# Altium integrated library Linear Technology Power Management Switching Regulator LT1074-LT8705.IntLib: 2252 symbols (part 82 of 148)
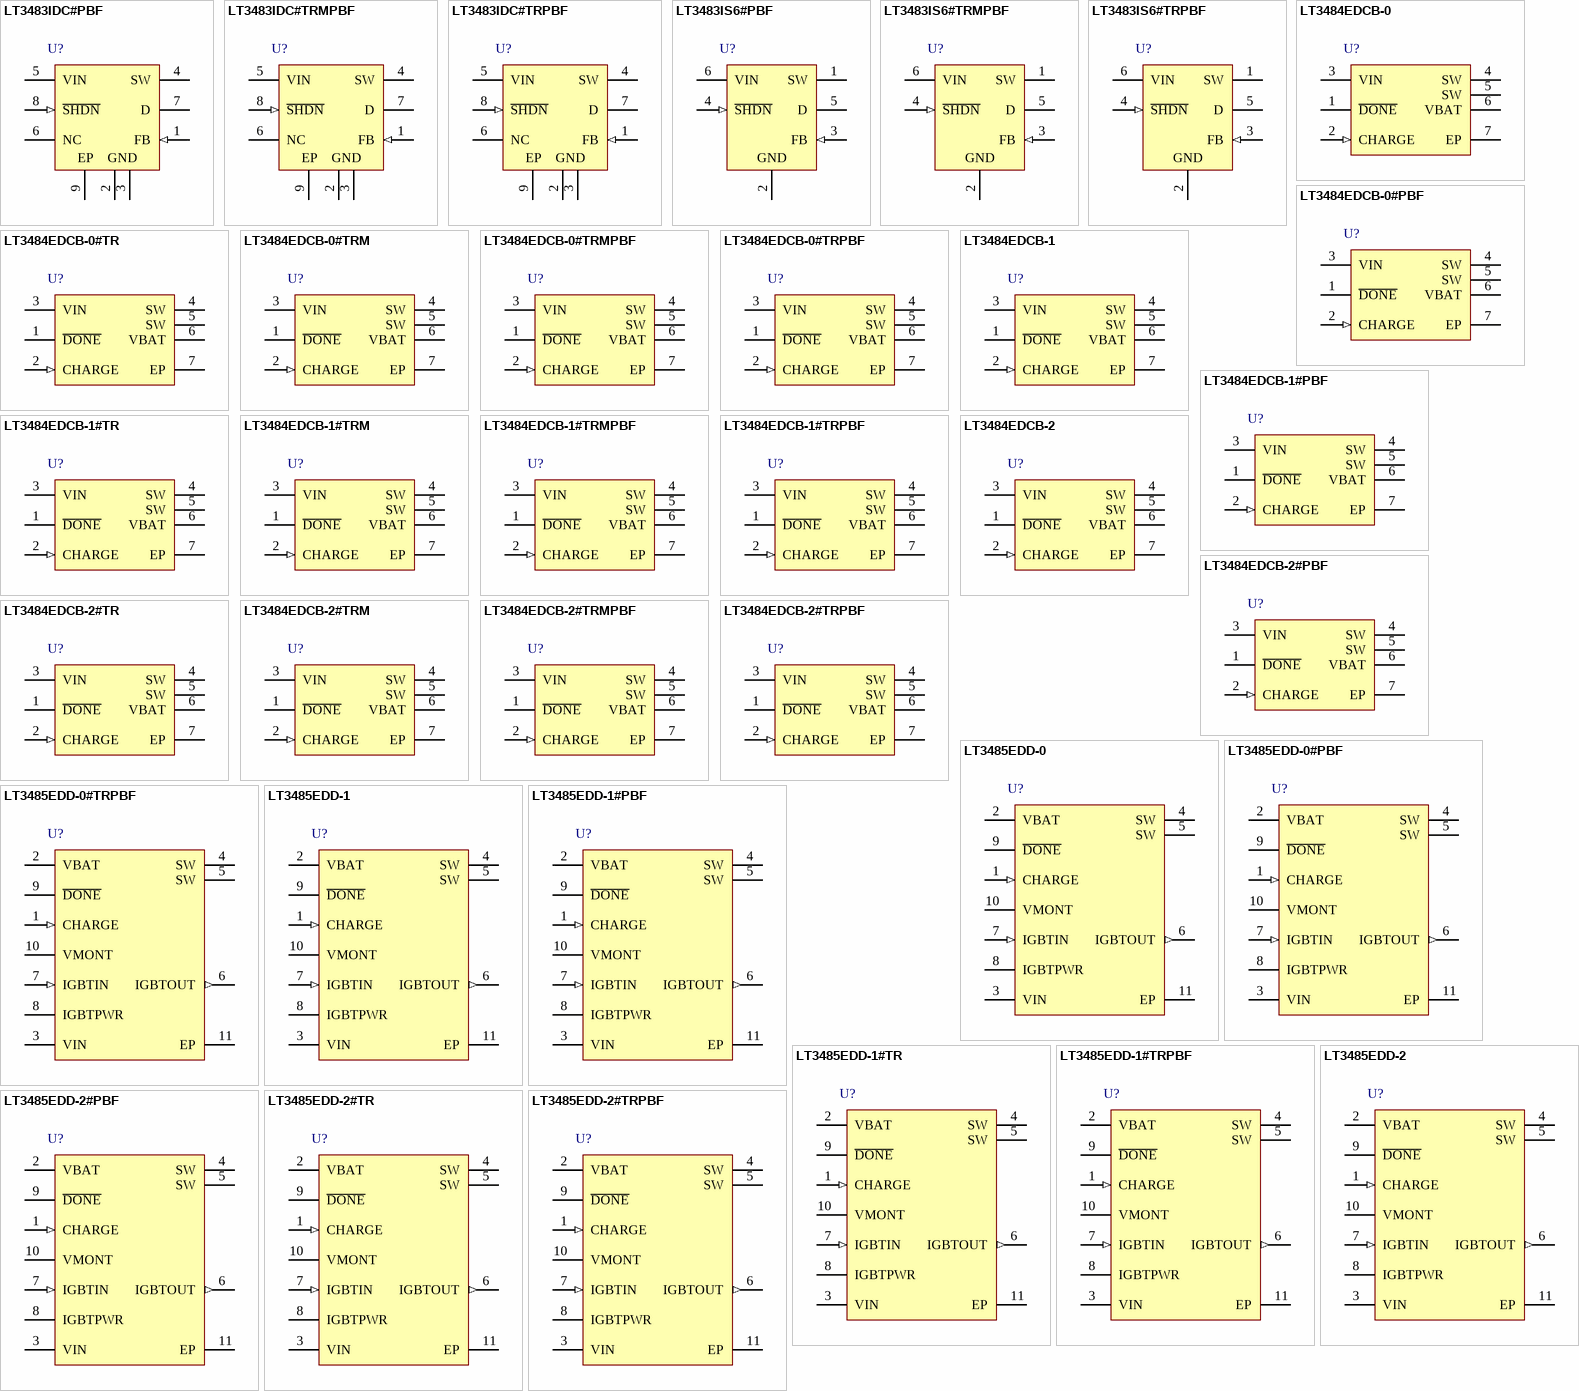
[diagram p152: symbols LT3483IDC#PBF to LT3485EDD-2#TRPBF]

## LT3484EDCB-1
designator U?
Photoflash Capacitor Charger, 6-pin SON (DCB-6), -40 to 85 degC; Manufacturer: Linear Technology; PartNumber: LT3484EDCB-1; Number of Outputs: 1; PackageVersion: Rev. A, 03/2011; PackageReference: DCB-6; PackageDescription: 6-Pin Plastic DFN, Body 2 x 3 mm, Pitch 0.5 mm; RoHS: FALSE; Mounting Technology: Surface Mount; Code_JEDEC: MO-229; ComponentLink1Description: Manufacturer URL; ComponentLink1URL: http://www.linear.com/; ComponentLink2Description: Datasheet; ComponentLink2URL: http://cds.linear.com/docs/en/datasheet/3484012f.pdf; ComponentLink3Description: Package Specification; ComponentLink3URL: http://www.linear.com/docs/en/packaging/(DCB6)%20DFN%2005-08-1715%20Rev%20A.pdf
footprint LT-DCB-6_V (SON, 6-Leads, Body 3x2mm, Pitch 0.5mm, Thermal Pad 1.65x1.35mm)
pins: 1 ~{DONE} (oc) "Open NPN Collector Indication Pin. When target output voltage is reached, NPN turns on, pulling Pin 1 low. This pin needs a pull-up resistor or current source.", 2 CHARGE (in) "Charge Pin. A low (<0.3V) to high (>1V) transition on this pin puts the part into power delivery mode. Once the target voltage is reached, the part will stop charging the output. Toggle this pin to start charging again. (See Datasheet)", 3 VIN (power) "Input Supply Pin. Must be locally bypassed with a good quality ceramic capacitor. Input supply must be 2.5V or higher.", 4 SW (power) "Switch Pins. These are the collector of the internal NPN Power switch. Tie these pins together on the PC Board. Minimize the metal trace area connected to these pins to minimize EMI. Tie one side of the primary of the (See Datasheet)", 5 SW (power) "Switch Pins. These are the collector of the internal NPN Power switch. Tie these pins together on the PC Board. Minimize the metal trace area connected to these pins to minimize EMI. Tie one side of the primary of the (See Datasheet)", 6 VBAT (power) "Battery Supply Pin. Must be locally bypassed with a good quality ceramic capacitor. Battery supply must be 1.7V or higher. The other terminal of the transformer primary must be connected to VBAT.", 7 EP (power) "Ground. Tie directly to local ground plane."

## LT3484EDCB-1#PBF
designator U?
Photoflash Capacitor Charger, 6-pin SON (DCB-6), -40 to 85 degC, Pb-Free; Manufacturer: Linear Technology; PartNumber: LT3484EDCB-1#PBF; Number of Outputs: 1; PackageVersion: Rev. A, 03/2011; PackageReference: DCB-6; PackageDescription: 6-Pin Plastic DFN, Body 2 x 3 mm, Pitch 0.5 mm; RoHS: TRUE; Mounting Technology: Surface Mount; Code_JEDEC: MO-229; ComponentLink1Description: Manufacturer URL; ComponentLink1URL: http://www.linear.com/; ComponentLink2Description: Datasheet; ComponentLink2URL: http://cds.linear.com/docs/en/datasheet/3484012f.pdf; ComponentLink3Description: Package Specification; ComponentLink3URL: http://www.linear.com/docs/en/packaging/(DCB6)%20DFN%2005-08-1715%20Rev%20A.pdf
footprint LT-DCB-6_V (SON, 6-Leads, Body 3x2mm, Pitch 0.5mm, Thermal Pad 1.65x1.35mm)
pins: 1 ~{DONE} (oc) "Open NPN Collector Indication Pin. When target output voltage is reached, NPN turns on, pulling Pin 1 low. This pin needs a pull-up resistor or current source.", 2 CHARGE (in) "Charge Pin. A low (<0.3V) to high (>1V) transition on this pin puts the part into power delivery mode. Once the target voltage is reached, the part will stop charging the output. Toggle this pin to start charging again. (See Datasheet)", 3 VIN (power) "Input Supply Pin. Must be locally bypassed with a good quality ceramic capacitor. Input supply must be 2.5V or higher.", 4 SW (power) "Switch Pins. These are the collector of the internal NPN Power switch. Tie these pins together on the PC Board. Minimize the metal trace area connected to these pins to minimize EMI. Tie one side of the primary of the (See Datasheet)", 5 SW (power) "Switch Pins. These are the collector of the internal NPN Power switch. Tie these pins together on the PC Board. Minimize the metal trace area connected to these pins to minimize EMI. Tie one side of the primary of the (See Datasheet)", 6 VBAT (power) "Battery Supply Pin. Must be locally bypassed with a good quality ceramic capacitor. Battery supply must be 1.7V or higher. The other terminal of the transformer primary must be connected to VBAT.", 7 EP (power) "Ground. Tie directly to local ground plane."

## LT3484EDCB-1#TR
designator U?
Photoflash Capacitor Charger, 6-pin SON (DCB-6), -40 to 85 degC, Tape and Reel; Manufacturer: Linear Technology; PartNumber: LT3484EDCB-1#TR; Number of Outputs: 1; PackageVersion: Rev. A, 03/2011; PackageReference: DCB-6; PackageDescription: 6-Pin Plastic DFN, Body 2 x 3 mm, Pitch 0.5 mm; Supplier 1: Digi-Key; Supplier Part Number 1: LT3484EDCB-1#TR-ND; Packing: Tape and Reel; RoHS: FALSE; Mounting Technology: Surface Mount; Code_JEDEC: MO-229; ComponentLink1Description: Manufacturer URL; ComponentLink1URL: http://www.linear.com/; ComponentLink2Description: Datasheet; ComponentLink2URL: http://cds.linear.com/docs/en/datasheet/3484012f.pdf; ComponentLink3Description: Package Specification; ComponentLink3URL: http://www.linear.com/docs/en/packaging/(DCB6)%20DFN%2005-08-1715%20Rev%20A.pdf
footprint LT-DCB-6_V (SON, 6-Leads, Body 3x2mm, Pitch 0.5mm, Thermal Pad 1.65x1.35mm)
pins: 1 ~{DONE} (oc) "Open NPN Collector Indication Pin. When target output voltage is reached, NPN turns on, pulling Pin 1 low. This pin needs a pull-up resistor or current source.", 2 CHARGE (in) "Charge Pin. A low (<0.3V) to high (>1V) transition on this pin puts the part into power delivery mode. Once the target voltage is reached, the part will stop charging the output. Toggle this pin to start charging again. (See Datasheet)", 3 VIN (power) "Input Supply Pin. Must be locally bypassed with a good quality ceramic capacitor. Input supply must be 2.5V or higher.", 4 SW (power) "Switch Pins. These are the collector of the internal NPN Power switch. Tie these pins together on the PC Board. Minimize the metal trace area connected to these pins to minimize EMI. Tie one side of the primary of the (See Datasheet)", 5 SW (power) "Switch Pins. These are the collector of the internal NPN Power switch. Tie these pins together on the PC Board. Minimize the metal trace area connected to these pins to minimize EMI. Tie one side of the primary of the (See Datasheet)", 6 VBAT (power) "Battery Supply Pin. Must be locally bypassed with a good quality ceramic capacitor. Battery supply must be 1.7V or higher. The other terminal of the transformer primary must be connected to VBAT.", 7 EP (power) "Ground. Tie directly to local ground plane."

## LT3484EDCB-1#TRM
designator U?
Photoflash Capacitor Charger, 6-pin SON (DCB-6), -40 to 85 degC, Mini Tape and Reel; Manufacturer: Linear Technology; PartNumber: LT3484EDCB-1#TRM; Number of Outputs: 1; PackageVersion: Rev. A, 03/2011; PackageReference: DCB-6; PackageDescription: 6-Pin Plastic DFN, Body 2 x 3 mm, Pitch 0.5 mm; Supplier 1: Digi-Key; Supplier Part Number 1: LT3484EDCB-1#TRM-ND; Packing: Mini Tape and Reel; RoHS: FALSE; Mounting Technology: Surface Mount; Code_JEDEC: MO-229; ComponentLink1Description: Manufacturer URL; ComponentLink1URL: http://www.linear.com/; ComponentLink2Description: Datasheet; ComponentLink2URL: http://cds.linear.com/docs/en/datasheet/3484012f.pdf; ComponentLink3Description: Package Specification; ComponentLink3URL: http://www.linear.com/docs/en/packaging/(DCB6)%20DFN%2005-08-1715%20Rev%20A.pdf
footprint LT-DCB-6_V (SON, 6-Leads, Body 3x2mm, Pitch 0.5mm, Thermal Pad 1.65x1.35mm)
pins: 1 ~{DONE} (oc) "Open NPN Collector Indication Pin. When target output voltage is reached, NPN turns on, pulling Pin 1 low. This pin needs a pull-up resistor or current source.", 2 CHARGE (in) "Charge Pin. A low (<0.3V) to high (>1V) transition on this pin puts the part into power delivery mode. Once the target voltage is reached, the part will stop charging the output. Toggle this pin to start charging again. (See Datasheet)", 3 VIN (power) "Input Supply Pin. Must be locally bypassed with a good quality ceramic capacitor. Input supply must be 2.5V or higher.", 4 SW (power) "Switch Pins. These are the collector of the internal NPN Power switch. Tie these pins together on the PC Board. Minimize the metal trace area connected to these pins to minimize EMI. Tie one side of the primary of the (See Datasheet)", 5 SW (power) "Switch Pins. These are the collector of the internal NPN Power switch. Tie these pins together on the PC Board. Minimize the metal trace area connected to these pins to minimize EMI. Tie one side of the primary of the (See Datasheet)", 6 VBAT (power) "Battery Supply Pin. Must be locally bypassed with a good quality ceramic capacitor. Battery supply must be 1.7V or higher. The other terminal of the transformer primary must be connected to VBAT.", 7 EP (power) "Ground. Tie directly to local ground plane."

## LT3484EDCB-1#TRMPBF
designator U?
Photoflash Capacitor Charger, 6-pin SON (DCB-6), -40 to 85 degC, Pb-Free, Mini Tape and Reel; Manufacturer: Linear Technology; PartNumber: LT3484EDCB-1#TRMPBF; Number of Outputs: 1; PackageVersion: Rev. A, 03/2011; PackageReference: DCB-6; PackageDescription: 6-Pin Plastic DFN, Body 2 x 3 mm, Pitch 0.5 mm; Supplier 1: Digi-Key; Supplier Part Number 1: LT3484EDCB-1#TRMPBFTR-ND; Supplier 2: Digi-Key; Supplier Part Number 2: LT3484EDCB-1#TRMPBFCT-ND; Supplier 3: Digi-Key; Supplier Part Number 3: LT3484EDCB-1#TRMPBFDKR-ND; Packing: Mini Tape and Reel; RoHS: TRUE; Mounting Technology: Surface Mount; Code_JEDEC: MO-229; ComponentLink1Description: Manufacturer URL; ComponentLink1URL: http://www.linear.com/; ComponentLink2Description: Datasheet; ComponentLink2URL: http://cds.linear.com/docs/en/datasheet/3484012f.pdf; ComponentLink3Description: Package Specification; ComponentLink3URL: http://www.linear.com/docs/en/packaging/(DCB6)%20DFN%2005-08-1715%20Rev%20A.pdf
footprint LT-DCB-6_V (SON, 6-Leads, Body 3x2mm, Pitch 0.5mm, Thermal Pad 1.65x1.35mm)
pins: 1 ~{DONE} (oc) "Open NPN Collector Indication Pin. When target output voltage is reached, NPN turns on, pulling Pin 1 low. This pin needs a pull-up resistor or current source.", 2 CHARGE (in) "Charge Pin. A low (<0.3V) to high (>1V) transition on this pin puts the part into power delivery mode. Once the target voltage is reached, the part will stop charging the output. Toggle this pin to start charging again. (See Datasheet)", 3 VIN (power) "Input Supply Pin. Must be locally bypassed with a good quality ceramic capacitor. Input supply must be 2.5V or higher.", 4 SW (power) "Switch Pins. These are the collector of the internal NPN Power switch. Tie these pins together on the PC Board. Minimize the metal trace area connected to these pins to minimize EMI. Tie one side of the primary of the (See Datasheet)", 5 SW (power) "Switch Pins. These are the collector of the internal NPN Power switch. Tie these pins together on the PC Board. Minimize the metal trace area connected to these pins to minimize EMI. Tie one side of the primary of the (See Datasheet)", 6 VBAT (power) "Battery Supply Pin. Must be locally bypassed with a good quality ceramic capacitor. Battery supply must be 1.7V or higher. The other terminal of the transformer primary must be connected to VBAT.", 7 EP (power) "Ground. Tie directly to local ground plane."

## LT3484EDCB-1#TRPBF
designator U?
Photoflash Capacitor Charger, 6-pin SON (DCB-6), -40 to 85 degC, Pb-Free, Tape and Reel; Manufacturer: Linear Technology; PartNumber: LT3484EDCB-1#TRPBF; Number of Outputs: 1; PackageVersion: Rev. A, 03/2011; PackageReference: DCB-6; PackageDescription: 6-Pin Plastic DFN, Body 2 x 3 mm, Pitch 0.5 mm; Supplier 1: Digi-Key; Supplier Part Number 1: LT3484EDCB-1#TRPBF-ND; Packing: Tape and Reel; RoHS: TRUE; Mounting Technology: Surface Mount; Code_JEDEC: MO-229; ComponentLink1Description: Manufacturer URL; ComponentLink1URL: http://www.linear.com/; ComponentLink2Description: Datasheet; ComponentLink2URL: http://cds.linear.com/docs/en/datasheet/3484012f.pdf; ComponentLink3Description: Package Specification; ComponentLink3URL: http://www.linear.com/docs/en/packaging/(DCB6)%20DFN%2005-08-1715%20Rev%20A.pdf
footprint LT-DCB-6_V (SON, 6-Leads, Body 3x2mm, Pitch 0.5mm, Thermal Pad 1.65x1.35mm)
pins: 1 ~{DONE} (oc) "Open NPN Collector Indication Pin. When target output voltage is reached, NPN turns on, pulling Pin 1 low. This pin needs a pull-up resistor or current source.", 2 CHARGE (in) "Charge Pin. A low (<0.3V) to high (>1V) transition on this pin puts the part into power delivery mode. Once the target voltage is reached, the part will stop charging the output. Toggle this pin to start charging again. (See Datasheet)", 3 VIN (power) "Input Supply Pin. Must be locally bypassed with a good quality ceramic capacitor. Input supply must be 2.5V or higher.", 4 SW (power) "Switch Pins. These are the collector of the internal NPN Power switch. Tie these pins together on the PC Board. Minimize the metal trace area connected to these pins to minimize EMI. Tie one side of the primary of the (See Datasheet)", 5 SW (power) "Switch Pins. These are the collector of the internal NPN Power switch. Tie these pins together on the PC Board. Minimize the metal trace area connected to these pins to minimize EMI. Tie one side of the primary of the (See Datasheet)", 6 VBAT (power) "Battery Supply Pin. Must be locally bypassed with a good quality ceramic capacitor. Battery supply must be 1.7V or higher. The other terminal of the transformer primary must be connected to VBAT.", 7 EP (power) "Ground. Tie directly to local ground plane."

## LT3484EDCB-2
designator U?
Photoflash Capacitor Charger, 6-pin SON (DCB-6), -40 to 85 degC; Manufacturer: Linear Technology; PartNumber: LT3484EDCB-2; Number of Outputs: 1; PackageVersion: Rev. A, 03/2011; PackageReference: DCB-6; PackageDescription: 6-Pin Plastic DFN, Body 2 x 3 mm, Pitch 0.5 mm; RoHS: FALSE; Mounting Technology: Surface Mount; Code_JEDEC: MO-229; ComponentLink1Description: Manufacturer URL; ComponentLink1URL: http://www.linear.com/; ComponentLink2Description: Datasheet; ComponentLink2URL: http://cds.linear.com/docs/en/datasheet/3484012f.pdf; ComponentLink3Description: Package Specification; ComponentLink3URL: http://www.linear.com/docs/en/packaging/(DCB6)%20DFN%2005-08-1715%20Rev%20A.pdf
footprint LT-DCB-6_V (SON, 6-Leads, Body 3x2mm, Pitch 0.5mm, Thermal Pad 1.65x1.35mm)
pins: 1 ~{DONE} (oc) "Open NPN Collector Indication Pin. When target output voltage is reached, NPN turns on, pulling Pin 1 low. This pin needs a pull-up resistor or current source.", 2 CHARGE (in) "Charge Pin. A low (<0.3V) to high (>1V) transition on this pin puts the part into power delivery mode. Once the target voltage is reached, the part will stop charging the output. Toggle this pin to start charging again. (See Datasheet)", 3 VIN (power) "Input Supply Pin. Must be locally bypassed with a good quality ceramic capacitor. Input supply must be 2.5V or higher.", 4 SW (power) "Switch Pins. These are the collector of the internal NPN Power switch. Tie these pins together on the PC Board. Minimize the metal trace area connected to these pins to minimize EMI. Tie one side of the primary of the (See Datasheet)", 5 SW (power) "Switch Pins. These are the collector of the internal NPN Power switch. Tie these pins together on the PC Board. Minimize the metal trace area connected to these pins to minimize EMI. Tie one side of the primary of the (See Datasheet)", 6 VBAT (power) "Battery Supply Pin. Must be locally bypassed with a good quality ceramic capacitor. Battery supply must be 1.7V or higher. The other terminal of the transformer primary must be connected to VBAT.", 7 EP (power) "Ground. Tie directly to local ground plane."

## LT3484EDCB-2#PBF
designator U?
Photoflash Capacitor Charger, 6-pin SON (DCB-6), -40 to 85 degC, Pb-Free; Manufacturer: Linear Technology; PartNumber: LT3484EDCB-2#PBF; Number of Outputs: 1; PackageVersion: Rev. A, 03/2011; PackageReference: DCB-6; PackageDescription: 6-Pin Plastic DFN, Body 2 x 3 mm, Pitch 0.5 mm; RoHS: TRUE; Mounting Technology: Surface Mount; Code_JEDEC: MO-229; ComponentLink1Description: Manufacturer URL; ComponentLink1URL: http://www.linear.com/; ComponentLink2Description: Datasheet; ComponentLink2URL: http://cds.linear.com/docs/en/datasheet/3484012f.pdf; ComponentLink3Description: Package Specification; ComponentLink3URL: http://www.linear.com/docs/en/packaging/(DCB6)%20DFN%2005-08-1715%20Rev%20A.pdf
footprint LT-DCB-6_V (SON, 6-Leads, Body 3x2mm, Pitch 0.5mm, Thermal Pad 1.65x1.35mm)
pins: 1 ~{DONE} (oc) "Open NPN Collector Indication Pin. When target output voltage is reached, NPN turns on, pulling Pin 1 low. This pin needs a pull-up resistor or current source.", 2 CHARGE (in) "Charge Pin. A low (<0.3V) to high (>1V) transition on this pin puts the part into power delivery mode. Once the target voltage is reached, the part will stop charging the output. Toggle this pin to start charging again. (See Datasheet)", 3 VIN (power) "Input Supply Pin. Must be locally bypassed with a good quality ceramic capacitor. Input supply must be 2.5V or higher.", 4 SW (power) "Switch Pins. These are the collector of the internal NPN Power switch. Tie these pins together on the PC Board. Minimize the metal trace area connected to these pins to minimize EMI. Tie one side of the primary of the (See Datasheet)", 5 SW (power) "Switch Pins. These are the collector of the internal NPN Power switch. Tie these pins together on the PC Board. Minimize the metal trace area connected to these pins to minimize EMI. Tie one side of the primary of the (See Datasheet)", 6 VBAT (power) "Battery Supply Pin. Must be locally bypassed with a good quality ceramic capacitor. Battery supply must be 1.7V or higher. The other terminal of the transformer primary must be connected to VBAT.", 7 EP (power) "Ground. Tie directly to local ground plane."

## LT3484EDCB-2#TR
designator U?
Photoflash Capacitor Charger, 6-pin SON (DCB-6), -40 to 85 degC, Tape and Reel; Manufacturer: Linear Technology; PartNumber: LT3484EDCB-2#TR; Number of Outputs: 1; PackageVersion: Rev. A, 03/2011; PackageReference: DCB-6; PackageDescription: 6-Pin Plastic DFN, Body 2 x 3 mm, Pitch 0.5 mm; Supplier 1: Digi-Key; Supplier Part Number 1: LT3484EDCB-2#TR-ND; Packing: Tape and Reel; RoHS: FALSE; Mounting Technology: Surface Mount; Code_JEDEC: MO-229; ComponentLink1Description: Manufacturer URL; ComponentLink1URL: http://www.linear.com/; ComponentLink2Description: Datasheet; ComponentLink2URL: http://cds.linear.com/docs/en/datasheet/3484012f.pdf; ComponentLink3Description: Package Specification; ComponentLink3URL: http://www.linear.com/docs/en/packaging/(DCB6)%20DFN%2005-08-1715%20Rev%20A.pdf
footprint LT-DCB-6_V (SON, 6-Leads, Body 3x2mm, Pitch 0.5mm, Thermal Pad 1.65x1.35mm)
pins: 1 ~{DONE} (oc) "Open NPN Collector Indication Pin. When target output voltage is reached, NPN turns on, pulling Pin 1 low. This pin needs a pull-up resistor or current source.", 2 CHARGE (in) "Charge Pin. A low (<0.3V) to high (>1V) transition on this pin puts the part into power delivery mode. Once the target voltage is reached, the part will stop charging the output. Toggle this pin to start charging again. (See Datasheet)", 3 VIN (power) "Input Supply Pin. Must be locally bypassed with a good quality ceramic capacitor. Input supply must be 2.5V or higher.", 4 SW (power) "Switch Pins. These are the collector of the internal NPN Power switch. Tie these pins together on the PC Board. Minimize the metal trace area connected to these pins to minimize EMI. Tie one side of the primary of the (See Datasheet)", 5 SW (power) "Switch Pins. These are the collector of the internal NPN Power switch. Tie these pins together on the PC Board. Minimize the metal trace area connected to these pins to minimize EMI. Tie one side of the primary of the (See Datasheet)", 6 VBAT (power) "Battery Supply Pin. Must be locally bypassed with a good quality ceramic capacitor. Battery supply must be 1.7V or higher. The other terminal of the transformer primary must be connected to VBAT.", 7 EP (power) "Ground. Tie directly to local ground plane."

## LT3484EDCB-2#TRM
designator U?
Photoflash Capacitor Charger, 6-pin SON (DCB-6), -40 to 85 degC, Mini Tape and Reel; Manufacturer: Linear Technology; PartNumber: LT3484EDCB-2#TRM; Number of Outputs: 1; PackageVersion: Rev. A, 03/2011; PackageReference: DCB-6; PackageDescription: 6-Pin Plastic DFN, Body 2 x 3 mm, Pitch 0.5 mm; Supplier 1: Digi-Key; Supplier Part Number 1: LT3484EDCB-2#TRM-ND; Packing: Mini Tape and Reel; RoHS: FALSE; Mounting Technology: Surface Mount; Code_JEDEC: MO-229; ComponentLink1Description: Manufacturer URL; ComponentLink1URL: http://www.linear.com/; ComponentLink2Description: Datasheet; ComponentLink2URL: http://cds.linear.com/docs/en/datasheet/3484012f.pdf; ComponentLink3Description: Package Specification; ComponentLink3URL: http://www.linear.com/docs/en/packaging/(DCB6)%20DFN%2005-08-1715%20Rev%20A.pdf
footprint LT-DCB-6_V (SON, 6-Leads, Body 3x2mm, Pitch 0.5mm, Thermal Pad 1.65x1.35mm)
pins: 1 ~{DONE} (oc) "Open NPN Collector Indication Pin. When target output voltage is reached, NPN turns on, pulling Pin 1 low. This pin needs a pull-up resistor or current source.", 2 CHARGE (in) "Charge Pin. A low (<0.3V) to high (>1V) transition on this pin puts the part into power delivery mode. Once the target voltage is reached, the part will stop charging the output. Toggle this pin to start charging again. (See Datasheet)", 3 VIN (power) "Input Supply Pin. Must be locally bypassed with a good quality ceramic capacitor. Input supply must be 2.5V or higher.", 4 SW (power) "Switch Pins. These are the collector of the internal NPN Power switch. Tie these pins together on the PC Board. Minimize the metal trace area connected to these pins to minimize EMI. Tie one side of the primary of the (See Datasheet)", 5 SW (power) "Switch Pins. These are the collector of the internal NPN Power switch. Tie these pins together on the PC Board. Minimize the metal trace area connected to these pins to minimize EMI. Tie one side of the primary of the (See Datasheet)", 6 VBAT (power) "Battery Supply Pin. Must be locally bypassed with a good quality ceramic capacitor. Battery supply must be 1.7V or higher. The other terminal of the transformer primary must be connected to VBAT.", 7 EP (power) "Ground. Tie directly to local ground plane."

## LT3484EDCB-2#TRMPBF
designator U?
Photoflash Capacitor Charger, 6-pin SON (DCB-6), -40 to 85 degC, Pb-Free, Mini Tape and Reel; Manufacturer: Linear Technology; PartNumber: LT3484EDCB-2#TRMPBF; Number of Outputs: 1; PackageVersion: Rev. A, 03/2011; PackageReference: DCB-6; PackageDescription: 6-Pin Plastic DFN, Body 2 x 3 mm, Pitch 0.5 mm; Supplier 1: Digi-Key; Supplier Part Number 1: LT3484EDCB-2#TRMPBFTR-ND; Supplier 2: Digi-Key; Supplier Part Number 2: LT3484EDCB-2#TRMPBFCT-ND; Supplier 3: Digi-Key; Supplier Part Number 3: LT3484EDCB-2#TRMPBFDKR-ND; Packing: Mini Tape and Reel; RoHS: TRUE; Mounting Technology: Surface Mount; Code_JEDEC: MO-229; ComponentLink1Description: Manufacturer URL; ComponentLink1URL: http://www.linear.com/; ComponentLink2Description: Datasheet; ComponentLink2URL: http://cds.linear.com/docs/en/datasheet/3484012f.pdf; ComponentLink3Description: Package Specification; ComponentLink3URL: http://www.linear.com/docs/en/packaging/(DCB6)%20DFN%2005-08-1715%20Rev%20A.pdf
footprint LT-DCB-6_V (SON, 6-Leads, Body 3x2mm, Pitch 0.5mm, Thermal Pad 1.65x1.35mm)
pins: 1 ~{DONE} (oc) "Open NPN Collector Indication Pin. When target output voltage is reached, NPN turns on, pulling Pin 1 low. This pin needs a pull-up resistor or current source.", 2 CHARGE (in) "Charge Pin. A low (<0.3V) to high (>1V) transition on this pin puts the part into power delivery mode. Once the target voltage is reached, the part will stop charging the output. Toggle this pin to start charging again. (See Datasheet)", 3 VIN (power) "Input Supply Pin. Must be locally bypassed with a good quality ceramic capacitor. Input supply must be 2.5V or higher.", 4 SW (power) "Switch Pins. These are the collector of the internal NPN Power switch. Tie these pins together on the PC Board. Minimize the metal trace area connected to these pins to minimize EMI. Tie one side of the primary of the (See Datasheet)", 5 SW (power) "Switch Pins. These are the collector of the internal NPN Power switch. Tie these pins together on the PC Board. Minimize the metal trace area connected to these pins to minimize EMI. Tie one side of the primary of the (See Datasheet)", 6 VBAT (power) "Battery Supply Pin. Must be locally bypassed with a good quality ceramic capacitor. Battery supply must be 1.7V or higher. The other terminal of the transformer primary must be connected to VBAT.", 7 EP (power) "Ground. Tie directly to local ground plane."

## LT3484EDCB-2#TRPBF
designator U?
Photoflash Capacitor Charger, 6-pin SON (DCB-6), -40 to 85 degC, Pb-Free, Tape and Reel; Manufacturer: Linear Technology; PartNumber: LT3484EDCB-2#TRPBF; Number of Outputs: 1; PackageVersion: Rev. A, 03/2011; PackageReference: DCB-6; PackageDescription: 6-Pin Plastic DFN, Body 2 x 3 mm, Pitch 0.5 mm; Supplier 1: Digi-Key; Supplier Part Number 1: LT3484EDCB-2#TRPBF-ND; Packing: Tape and Reel; RoHS: TRUE; Mounting Technology: Surface Mount; Code_JEDEC: MO-229; ComponentLink1Description: Manufacturer URL; ComponentLink1URL: http://www.linear.com/; ComponentLink2Description: Datasheet; ComponentLink2URL: http://cds.linear.com/docs/en/datasheet/3484012f.pdf; ComponentLink3Description: Package Specification; ComponentLink3URL: http://www.linear.com/docs/en/packaging/(DCB6)%20DFN%2005-08-1715%20Rev%20A.pdf
footprint LT-DCB-6_V (SON, 6-Leads, Body 3x2mm, Pitch 0.5mm, Thermal Pad 1.65x1.35mm)
pins: 1 ~{DONE} (oc) "Open NPN Collector Indication Pin. When target output voltage is reached, NPN turns on, pulling Pin 1 low. This pin needs a pull-up resistor or current source.", 2 CHARGE (in) "Charge Pin. A low (<0.3V) to high (>1V) transition on this pin puts the part into power delivery mode. Once the target voltage is reached, the part will stop charging the output. Toggle this pin to start charging again. (See Datasheet)", 3 VIN (power) "Input Supply Pin. Must be locally bypassed with a good quality ceramic capacitor. Input supply must be 2.5V or higher.", 4 SW (power) "Switch Pins. These are the collector of the internal NPN Power switch. Tie these pins together on the PC Board. Minimize the metal trace area connected to these pins to minimize EMI. Tie one side of the primary of the (See Datasheet)", 5 SW (power) "Switch Pins. These are the collector of the internal NPN Power switch. Tie these pins together on the PC Board. Minimize the metal trace area connected to these pins to minimize EMI. Tie one side of the primary of the (See Datasheet)", 6 VBAT (power) "Battery Supply Pin. Must be locally bypassed with a good quality ceramic capacitor. Battery supply must be 1.7V or higher. The other terminal of the transformer primary must be connected to VBAT.", 7 EP (power) "Ground. Tie directly to local ground plane."

## LT3485EDD-0
designator U?
Photoflash Capacitor Chargers with Output Voltage Monitor and Integrated IGBT Drive, 10-pin SON (DD-10), -40 to 85 degC; Manufacturer: Linear Technology; PartNumber: LT3485EDD-0; Number of Outputs: 1; DatasheetVersion: Rev. B; PackageVersion: Rev. C, 06/2010; PackageReference: DD-10; PackageDescription: 10-Pin Plastic DFN, Body 3 x 3 mm, Pitch 0.5 mm; RoHS: FALSE; Mounting Technology: Surface Mount; Code_JEDEC: MO-229; ComponentLink1Description: Manufacturer URL; ComponentLink1URL: http://www.linear.com/; ComponentLink2Description: Datasheet; ComponentLink2URL: http://cds.linear.com/docs/en/datasheet/34850123fb.pdf; ComponentLink3Description: Package Specification; ComponentLink3URL: http://cds.linear.com/docs/en/packaging/DFN_10_05-08-1699.pdf
footprint LT-DD-10_V (SON, 10-Leads, Body 3x3mm, Pitch 0.5mm, Thermal Pad 2.38x1.65mm)
pins: 1 CHARGE (in) "Charge Pin. A low (<0.3V) to high (>1V) transition on this pin puts the part into power delivery mode. Once the target voltage is reached, the part will stop charging the output. Toggle this pin to start charging again. (See Datasheet)", 2 VBAT (power) "Battery Supply Pin. Must be locally bypassed with a good quality ceramic capacitor. Battery supply must be 1.7V or higher.", 3 VIN (power) "Input Supply Pin. Must be locally bypassed with a good quality ceramic capacitor. Input supply must be 2.5V or higher.", 4 SW (power) "Switch Pin. This is the collector of the internal NPN power switch. Minimize the metal trace area connected to this pin to minimize EMI. Tie one side of the primary of the transformer to this pin. The target output voltage (See Datasheet)", 5 SW (power) "Switch Pin. This is the collector of the internal NPN power switch. Minimize the metal trace area connected to this pin to minimize EMI. Tie one side of the primary of the transformer to this pin. The target output voltage (See Datasheet)", 6 IGBTOUT (out) "Output Drive for IGBT Gate. Connect this pin to the gate of the IGBT.", 7 IGBTIN (in) "Logic Input Pin for IGBT Drive. When this pin is driven higher than 1.5V, the IGBT output pin goes high. When the pin is below 0.3V, the output is low.", 8 IGBTPWR (power) "Input Supply Pin. Must be locally bypassed with a good quality ceramic capacitor. Input supply must be 0.1V higher than the turn-on voltage for the IGBT.", 9 ~{DONE} (oc) "Open NPN Collector Indication Pin. When target output voltage is reached, NPN turns on. This pin needs a pull-up resistor or current source.", 10 VMONT (power) "Supplies a voltage proportional to the output voltage where 1V is the end of charge voltage. Only valid while the part is charging.", 11 EP (power) "Ground. Tie directly to local ground plane"

## LT3485EDD-0#PBF
designator U?
Photoflash Capacitor Chargers with Output Voltage Monitor and Integrated IGBT Drive, 10-pin SON (DD-10), -40 to 85 degC, Pb-Free; Manufacturer: Linear Technology; PartNumber: LT3485EDD-0#PBF; Number of Outputs: 1; DatasheetVersion: Rev. B; PackageVersion: Rev. C, 06/2010; PackageReference: DD-10; PackageDescription: 10-Pin Plastic DFN, Body 3 x 3 mm, Pitch 0.5 mm; Supplier 1: Digi-Key; Supplier Part Number 1: LT3485EDD-0#PBF-ND; RoHS: TRUE; Mounting Technology: Surface Mount; Code_JEDEC: MO-229; ComponentLink1Description: Manufacturer URL; ComponentLink1URL: http://www.linear.com/; ComponentLink2Description: Datasheet; ComponentLink2URL: http://cds.linear.com/docs/en/datasheet/34850123fb.pdf; ComponentLink3Description: Package Specification; ComponentLink3URL: http://cds.linear.com/docs/en/packaging/DFN_10_05-08-1699.pdf
footprint LT-DD-10_V (SON, 10-Leads, Body 3x3mm, Pitch 0.5mm, Thermal Pad 2.38x1.65mm)
pins: 1 CHARGE (in) "Charge Pin. A low (<0.3V) to high (>1V) transition on this pin puts the part into power delivery mode. Once the target voltage is reached, the part will stop charging the output. Toggle this pin to start charging again. (See Datasheet)", 2 VBAT (power) "Battery Supply Pin. Must be locally bypassed with a good quality ceramic capacitor. Battery supply must be 1.7V or higher.", 3 VIN (power) "Input Supply Pin. Must be locally bypassed with a good quality ceramic capacitor. Input supply must be 2.5V or higher.", 4 SW (power) "Switch Pin. This is the collector of the internal NPN power switch. Minimize the metal trace area connected to this pin to minimize EMI. Tie one side of the primary of the transformer to this pin. The target output voltage (See Datasheet)", 5 SW (power) "Switch Pin. This is the collector of the internal NPN power switch. Minimize the metal trace area connected to this pin to minimize EMI. Tie one side of the primary of the transformer to this pin. The target output voltage (See Datasheet)", 6 IGBTOUT (out) "Output Drive for IGBT Gate. Connect this pin to the gate of the IGBT.", 7 IGBTIN (in) "Logic Input Pin for IGBT Drive. When this pin is driven higher than 1.5V, the IGBT output pin goes high. When the pin is below 0.3V, the output is low.", 8 IGBTPWR (power) "Input Supply Pin. Must be locally bypassed with a good quality ceramic capacitor. Input supply must be 0.1V higher than the turn-on voltage for the IGBT.", 9 ~{DONE} (oc) "Open NPN Collector Indication Pin. When target output voltage is reached, NPN turns on. This pin needs a pull-up resistor or current source.", 10 VMONT (power) "Supplies a voltage proportional to the output voltage where 1V is the end of charge voltage. Only valid while the part is charging.", 11 EP (power) "Ground. Tie directly to local ground plane"

## LT3485EDD-0#TRPBF
designator U?
Photoflash Capacitor Chargers with Output Voltage Monitor and Integrated IGBT Drive, 10-pin SON (DD-10), -40 to 85 degC, Pb-Free, Tape and Reel; Manufacturer: Linear Technology; PartNumber: LT3485EDD-0#TRPBF; Number of Outputs: 1; DatasheetVersion: Rev. B; PackageVersion: Rev. C, 06/2010; PackageReference: DD-10; PackageDescription: 10-Pin Plastic DFN, Body 3 x 3 mm, Pitch 0.5 mm; Supplier 1: Digi-Key; Supplier Part Number 1: LT3485EDD-0#TRPBF-ND; Supplier 2: Newark; Supplier Part Number 2: 56P3100; Packing: Tape and Reel; RoHS: TRUE; Mounting Technology: Surface Mount; Code_JEDEC: MO-229; ComponentLink1Description: Manufacturer URL; ComponentLink1URL: http://www.linear.com/; ComponentLink2Description: Datasheet; ComponentLink2URL: http://cds.linear.com/docs/en/datasheet/34850123fb.pdf; ComponentLink3Description: Package Specification; ComponentLink3URL: http://cds.linear.com/docs/en/packaging/DFN_10_05-08-1699.pdf
footprint LT-DD-10_V (SON, 10-Leads, Body 3x3mm, Pitch 0.5mm, Thermal Pad 2.38x1.65mm)
pins: 1 CHARGE (in) "Charge Pin. A low (<0.3V) to high (>1V) transition on this pin puts the part into power delivery mode. Once the target voltage is reached, the part will stop charging the output. Toggle this pin to start charging again. (See Datasheet)", 2 VBAT (power) "Battery Supply Pin. Must be locally bypassed with a good quality ceramic capacitor. Battery supply must be 1.7V or higher.", 3 VIN (power) "Input Supply Pin. Must be locally bypassed with a good quality ceramic capacitor. Input supply must be 2.5V or higher.", 4 SW (power) "Switch Pin. This is the collector of the internal NPN power switch. Minimize the metal trace area connected to this pin to minimize EMI. Tie one side of the primary of the transformer to this pin. The target output voltage (See Datasheet)", 5 SW (power) "Switch Pin. This is the collector of the internal NPN power switch. Minimize the metal trace area connected to this pin to minimize EMI. Tie one side of the primary of the transformer to this pin. The target output voltage (See Datasheet)", 6 IGBTOUT (out) "Output Drive for IGBT Gate. Connect this pin to the gate of the IGBT.", 7 IGBTIN (in) "Logic Input Pin for IGBT Drive. When this pin is driven higher than 1.5V, the IGBT output pin goes high. When the pin is below 0.3V, the output is low.", 8 IGBTPWR (power) "Input Supply Pin. Must be locally bypassed with a good quality ceramic capacitor. Input supply must be 0.1V higher than the turn-on voltage for the IGBT.", 9 ~{DONE} (oc) "Open NPN Collector Indication Pin. When target output voltage is reached, NPN turns on. This pin needs a pull-up resistor or current source.", 10 VMONT (power) "Supplies a voltage proportional to the output voltage where 1V is the end of charge voltage. Only valid while the part is charging.", 11 EP (power) "Ground. Tie directly to local ground plane"

## LT3485EDD-1
designator U?
Photoflash Capacitor Chargers with Output Voltage Monitor and Integrated IGBT Drive, 10-pin SON (DD-10), -40 to 85 degC; Manufacturer: Linear Technology; PartNumber: LT3485EDD-1; Number of Outputs: 1; DatasheetVersion: Rev. B; PackageVersion: Rev. C, 06/2010; PackageReference: DD-10; PackageDescription: 10-Pin Plastic DFN, Body 3 x 3 mm, Pitch 0.5 mm; RoHS: FALSE; Mounting Technology: Surface Mount; Code_JEDEC: MO-229; ComponentLink1Description: Manufacturer URL; ComponentLink1URL: http://www.linear.com/; ComponentLink2Description: Datasheet; ComponentLink2URL: http://cds.linear.com/docs/en/datasheet/34850123fb.pdf; ComponentLink3Description: Package Specification; ComponentLink3URL: http://cds.linear.com/docs/en/packaging/DFN_10_05-08-1699.pdf
footprint LT-DD-10_V (SON, 10-Leads, Body 3x3mm, Pitch 0.5mm, Thermal Pad 2.38x1.65mm)
pins: 1 CHARGE (in) "Charge Pin. A low (<0.3V) to high (>1V) transition on this pin puts the part into power delivery mode. Once the target voltage is reached, the part will stop charging the output. Toggle this pin to start charging again. (See Datasheet)", 2 VBAT (power) "Battery Supply Pin. Must be locally bypassed with a good quality ceramic capacitor. Battery supply must be 1.7V or higher.", 3 VIN (power) "Input Supply Pin. Must be locally bypassed with a good quality ceramic capacitor. Input supply must be 2.5V or higher.", 4 SW (power) "Switch Pin. This is the collector of the internal NPN power switch. Minimize the metal trace area connected to this pin to minimize EMI. Tie one side of the primary of the transformer to this pin. The target output voltage (See Datasheet)", 5 SW (power) "Switch Pin. This is the collector of the internal NPN power switch. Minimize the metal trace area connected to this pin to minimize EMI. Tie one side of the primary of the transformer to this pin. The target output voltage (See Datasheet)", 6 IGBTOUT (out) "Output Drive for IGBT Gate. Connect this pin to the gate of the IGBT.", 7 IGBTIN (in) "Logic Input Pin for IGBT Drive. When this pin is driven higher than 1.5V, the IGBT output pin goes high. When the pin is below 0.3V, the output is low.", 8 IGBTPWR (power) "Input Supply Pin. Must be locally bypassed with a good quality ceramic capacitor. Input supply must be 0.1V higher than the turn-on voltage for the IGBT.", 9 ~{DONE} (oc) "Open NPN Collector Indication Pin. When target output voltage is reached, NPN turns on. This pin needs a pull-up resistor or current source.", 10 VMONT (power) "Supplies a voltage proportional to the output voltage where 1V is the end of charge voltage. Only valid while the part is charging.", 11 EP (power) "Ground. Tie directly to local ground plane"

## LT3485EDD-1#PBF
designator U?
Photoflash Capacitor Chargers with Output Voltage Monitor and Integrated IGBT Drive, 10-pin SON (DD-10), -40 to 85 degC, Pb-Free; Manufacturer: Linear Technology; PartNumber: LT3485EDD-1#PBF; Number of Outputs: 1; DatasheetVersion: Rev. B; PackageVersion: Rev. C, 06/2010; PackageReference: DD-10; PackageDescription: 10-Pin Plastic DFN, Body 3 x 3 mm, Pitch 0.5 mm; Supplier 1: Digi-Key; Supplier Part Number 1: LT3485EDD-1#PBF-ND; RoHS: TRUE; Mounting Technology: Surface Mount; Code_JEDEC: MO-229; ComponentLink1Description: Manufacturer URL; ComponentLink1URL: http://www.linear.com/; ComponentLink2Description: Datasheet; ComponentLink2URL: http://cds.linear.com/docs/en/datasheet/34850123fb.pdf; ComponentLink3Description: Package Specification; ComponentLink3URL: http://cds.linear.com/docs/en/packaging/DFN_10_05-08-1699.pdf
footprint LT-DD-10_V (SON, 10-Leads, Body 3x3mm, Pitch 0.5mm, Thermal Pad 2.38x1.65mm)
pins: 1 CHARGE (in) "Charge Pin. A low (<0.3V) to high (>1V) transition on this pin puts the part into power delivery mode. Once the target voltage is reached, the part will stop charging the output. Toggle this pin to start charging again. (See Datasheet)", 2 VBAT (power) "Battery Supply Pin. Must be locally bypassed with a good quality ceramic capacitor. Battery supply must be 1.7V or higher.", 3 VIN (power) "Input Supply Pin. Must be locally bypassed with a good quality ceramic capacitor. Input supply must be 2.5V or higher.", 4 SW (power) "Switch Pin. This is the collector of the internal NPN power switch. Minimize the metal trace area connected to this pin to minimize EMI. Tie one side of the primary of the transformer to this pin. The target output voltage (See Datasheet)", 5 SW (power) "Switch Pin. This is the collector of the internal NPN power switch. Minimize the metal trace area connected to this pin to minimize EMI. Tie one side of the primary of the transformer to this pin. The target output voltage (See Datasheet)", 6 IGBTOUT (out) "Output Drive for IGBT Gate. Connect this pin to the gate of the IGBT.", 7 IGBTIN (in) "Logic Input Pin for IGBT Drive. When this pin is driven higher than 1.5V, the IGBT output pin goes high. When the pin is below 0.3V, the output is low.", 8 IGBTPWR (power) "Input Supply Pin. Must be locally bypassed with a good quality ceramic capacitor. Input supply must be 0.1V higher than the turn-on voltage for the IGBT.", 9 ~{DONE} (oc) "Open NPN Collector Indication Pin. When target output voltage is reached, NPN turns on. This pin needs a pull-up resistor or current source.", 10 VMONT (power) "Supplies a voltage proportional to the output voltage where 1V is the end of charge voltage. Only valid while the part is charging.", 11 EP (power) "Ground. Tie directly to local ground plane"

## LT3485EDD-1#TR
designator U?
Photoflash Capacitor Chargers with Output Voltage Monitor and Integrated IGBT Drive, 10-pin SON (DD-10), -40 to 85 degC, Tape and Reel; Manufacturer: Linear Technology; PartNumber: LT3485EDD-1#TR; Number of Outputs: 1; DatasheetVersion: Rev. B; PackageVersion: Rev. C, 06/2010; PackageReference: DD-10; PackageDescription: 10-Pin Plastic DFN, Body 3 x 3 mm, Pitch 0.5 mm; Packing: Tape and Reel; RoHS: FALSE; Mounting Technology: Surface Mount; Code_JEDEC: MO-229; ComponentLink1Description: Manufacturer URL; ComponentLink1URL: http://www.linear.com/; ComponentLink2Description: Datasheet; ComponentLink2URL: http://cds.linear.com/docs/en/datasheet/34850123fb.pdf; ComponentLink3Description: Package Specification; ComponentLink3URL: http://cds.linear.com/docs/en/packaging/DFN_10_05-08-1699.pdf
footprint LT-DD-10_V (SON, 10-Leads, Body 3x3mm, Pitch 0.5mm, Thermal Pad 2.38x1.65mm)
pins: 1 CHARGE (in) "Charge Pin. A low (<0.3V) to high (>1V) transition on this pin puts the part into power delivery mode. Once the target voltage is reached, the part will stop charging the output. Toggle this pin to start charging again. (See Datasheet)", 2 VBAT (power) "Battery Supply Pin. Must be locally bypassed with a good quality ceramic capacitor. Battery supply must be 1.7V or higher.", 3 VIN (power) "Input Supply Pin. Must be locally bypassed with a good quality ceramic capacitor. Input supply must be 2.5V or higher.", 4 SW (power) "Switch Pin. This is the collector of the internal NPN power switch. Minimize the metal trace area connected to this pin to minimize EMI. Tie one side of the primary of the transformer to this pin. The target output voltage (See Datasheet)", 5 SW (power) "Switch Pin. This is the collector of the internal NPN power switch. Minimize the metal trace area connected to this pin to minimize EMI. Tie one side of the primary of the transformer to this pin. The target output voltage (See Datasheet)", 6 IGBTOUT (out) "Output Drive for IGBT Gate. Connect this pin to the gate of the IGBT.", 7 IGBTIN (in) "Logic Input Pin for IGBT Drive. When this pin is driven higher than 1.5V, the IGBT output pin goes high. When the pin is below 0.3V, the output is low.", 8 IGBTPWR (power) "Input Supply Pin. Must be locally bypassed with a good quality ceramic capacitor. Input supply must be 0.1V higher than the turn-on voltage for the IGBT.", 9 ~{DONE} (oc) "Open NPN Collector Indication Pin. When target output voltage is reached, NPN turns on. This pin needs a pull-up resistor or current source.", 10 VMONT (power) "Supplies a voltage proportional to the output voltage where 1V is the end of charge voltage. Only valid while the part is charging.", 11 EP (power) "Ground. Tie directly to local ground plane"

## LT3485EDD-1#TRPBF
designator U?
Photoflash Capacitor Chargers with Output Voltage Monitor and Integrated IGBT Drive, 10-pin SON (DD-10), -40 to 85 degC, Pb-Free, Tape and Reel; Manufacturer: Linear Technology; PartNumber: LT3485EDD-1#TRPBF; Number of Outputs: 1; DatasheetVersion: Rev. B; PackageVersion: Rev. C, 06/2010; PackageReference: DD-10; PackageDescription: 10-Pin Plastic DFN, Body 3 x 3 mm, Pitch 0.5 mm; Supplier 1: Digi-Key; Supplier Part Number 1: LT3485EDD-1#TRPBF-ND; Packing: Tape and Reel; RoHS: TRUE; Mounting Technology: Surface Mount; Code_JEDEC: MO-229; ComponentLink1Description: Manufacturer URL; ComponentLink1URL: http://www.linear.com/; ComponentLink2Description: Datasheet; ComponentLink2URL: http://cds.linear.com/docs/en/datasheet/34850123fb.pdf; ComponentLink3Description: Package Specification; ComponentLink3URL: http://cds.linear.com/docs/en/packaging/DFN_10_05-08-1699.pdf
footprint LT-DD-10_V (SON, 10-Leads, Body 3x3mm, Pitch 0.5mm, Thermal Pad 2.38x1.65mm)
pins: 1 CHARGE (in) "Charge Pin. A low (<0.3V) to high (>1V) transition on this pin puts the part into power delivery mode. Once the target voltage is reached, the part will stop charging the output. Toggle this pin to start charging again. (See Datasheet)", 2 VBAT (power) "Battery Supply Pin. Must be locally bypassed with a good quality ceramic capacitor. Battery supply must be 1.7V or higher.", 3 VIN (power) "Input Supply Pin. Must be locally bypassed with a good quality ceramic capacitor. Input supply must be 2.5V or higher.", 4 SW (power) "Switch Pin. This is the collector of the internal NPN power switch. Minimize the metal trace area connected to this pin to minimize EMI. Tie one side of the primary of the transformer to this pin. The target output voltage (See Datasheet)", 5 SW (power) "Switch Pin. This is the collector of the internal NPN power switch. Minimize the metal trace area connected to this pin to minimize EMI. Tie one side of the primary of the transformer to this pin. The target output voltage (See Datasheet)", 6 IGBTOUT (out) "Output Drive for IGBT Gate. Connect this pin to the gate of the IGBT.", 7 IGBTIN (in) "Logic Input Pin for IGBT Drive. When this pin is driven higher than 1.5V, the IGBT output pin goes high. When the pin is below 0.3V, the output is low.", 8 IGBTPWR (power) "Input Supply Pin. Must be locally bypassed with a good quality ceramic capacitor. Input supply must be 0.1V higher than the turn-on voltage for the IGBT.", 9 ~{DONE} (oc) "Open NPN Collector Indication Pin. When target output voltage is reached, NPN turns on. This pin needs a pull-up resistor or current source.", 10 VMONT (power) "Supplies a voltage proportional to the output voltage where 1V is the end of charge voltage. Only valid while the part is charging.", 11 EP (power) "Ground. Tie directly to local ground plane"

## LT3485EDD-2
designator U?
Photoflash Capacitor Chargers with Output Voltage Monitor and Integrated IGBT Drive, 10-pin SON (DD-10), -40 to 85 degC; Manufacturer: Linear Technology; PartNumber: LT3485EDD-2; Number of Outputs: 1; DatasheetVersion: Rev. B; PackageVersion: Rev. C, 06/2010; PackageReference: DD-10; PackageDescription: 10-Pin Plastic DFN, Body 3 x 3 mm, Pitch 0.5 mm; RoHS: FALSE; Mounting Technology: Surface Mount; Code_JEDEC: MO-229; ComponentLink1Description: Manufacturer URL; ComponentLink1URL: http://www.linear.com/; ComponentLink2Description: Datasheet; ComponentLink2URL: http://cds.linear.com/docs/en/datasheet/34850123fb.pdf; ComponentLink3Description: Package Specification; ComponentLink3URL: http://cds.linear.com/docs/en/packaging/DFN_10_05-08-1699.pdf
footprint LT-DD-10_V (SON, 10-Leads, Body 3x3mm, Pitch 0.5mm, Thermal Pad 2.38x1.65mm)
pins: 1 CHARGE (in) "Charge Pin. A low (<0.3V) to high (>1V) transition on this pin puts the part into power delivery mode. Once the target voltage is reached, the part will stop charging the output. Toggle this pin to start charging again. (See Datasheet)", 2 VBAT (power) "Battery Supply Pin. Must be locally bypassed with a good quality ceramic capacitor. Battery supply must be 1.7V or higher.", 3 VIN (power) "Input Supply Pin. Must be locally bypassed with a good quality ceramic capacitor. Input supply must be 2.5V or higher.", 4 SW (power) "Switch Pin. This is the collector of the internal NPN power switch. Minimize the metal trace area connected to this pin to minimize EMI. Tie one side of the primary of the transformer to this pin. The target output voltage (See Datasheet)", 5 SW (power) "Switch Pin. This is the collector of the internal NPN power switch. Minimize the metal trace area connected to this pin to minimize EMI. Tie one side of the primary of the transformer to this pin. The target output voltage (See Datasheet)", 6 IGBTOUT (out) "Output Drive for IGBT Gate. Connect this pin to the gate of the IGBT.", 7 IGBTIN (in) "Logic Input Pin for IGBT Drive. When this pin is driven higher than 1.5V, the IGBT output pin goes high. When the pin is below 0.3V, the output is low.", 8 IGBTPWR (power) "Input Supply Pin. Must be locally bypassed with a good quality ceramic capacitor. Input supply must be 0.1V higher than the turn-on voltage for the IGBT.", 9 ~{DONE} (oc) "Open NPN Collector Indication Pin. When target output voltage is reached, NPN turns on. This pin needs a pull-up resistor or current source.", 10 VMONT (power) "Supplies a voltage proportional to the output voltage where 1V is the end of charge voltage. Only valid while the part is charging.", 11 EP (power) "Ground. Tie directly to local ground plane"